# EAGLE library part INTERFACE-MCP23017-E/SP(DIP28) (library Seeed-OPL-ic)
310070009
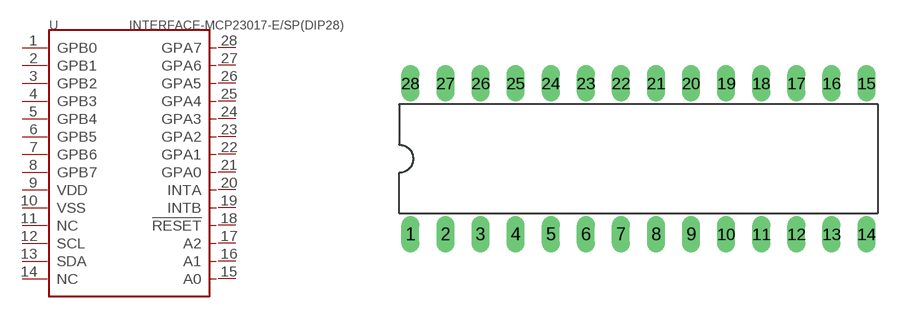
[diagram p125: symbol with the pads of DIP28-2.54-34.7X7.62MM; footprint DIP28-2.54-34.7X7.62MM]

Designator prefix U

## INTERFACE-MCP23017-E/SP(DIP28) (MPN: MCP23017-E/SP; VALUE: MCP23017-E/SP-DIP28)  [DIP28-2.54-34.7X7.62MM]
1  GPB0
2  GPB1
3  GPB2
4  GPB3
5  GPB4
6  GPB5
7  GPB6
8  GPB7
9  VDD
10  VSS
11  NC
12  SCL
13  SDA
14  NC
15  A0
16  A1
17  A2
18  !RESET
19  INTB
20  INTA
21  GPA0
22  GPA1
23  GPA2
24  GPA3
25  GPA4
26  GPA5
27  GPA6
28  GPA7

## Footprint DIP28-2.54-34.7X7.62MM (pad centres in mm)
drill 0.813 long: 1 -16.51,-5.461; 2 -13.97,-5.461; 3 -11.43,-5.461; 4 -8.89,-5.461; 5 -6.35,-5.461; 6 -3.81,-5.461; 7 -1.27,-5.461; 8 1.27,-5.461; 9 3.81,-5.461; 10 6.35,-5.461; 11 8.89,-5.461; 12 11.43,-5.461; 13 13.97,-5.461; 14 16.51,-5.461; 15 16.51,5.461; 16 13.97,5.461; 17 11.43,5.461; 18 8.89,5.461; 19 6.35,5.461; 20 3.81,5.461; 21 1.27,5.461; 22 -1.27,5.461; 23 -3.81,5.461; 24 -6.35,5.461; 25 -8.89,5.461; 26 -11.43,5.461; 27 -13.97,5.461; 28 -16.51,5.461